# Altium footprint library 2171750001.PcbLib: 1 footprints
Each footprint in its own frame and in the unit in brackets; x right, y up, seen from the top. Pads: shape width x height; smd on the part's side, far side on the other; paste and mask are expansions set on the pad; w line width, h text height; cw(c..) or ccw(c..) is an arc to the next point about the centre after c.
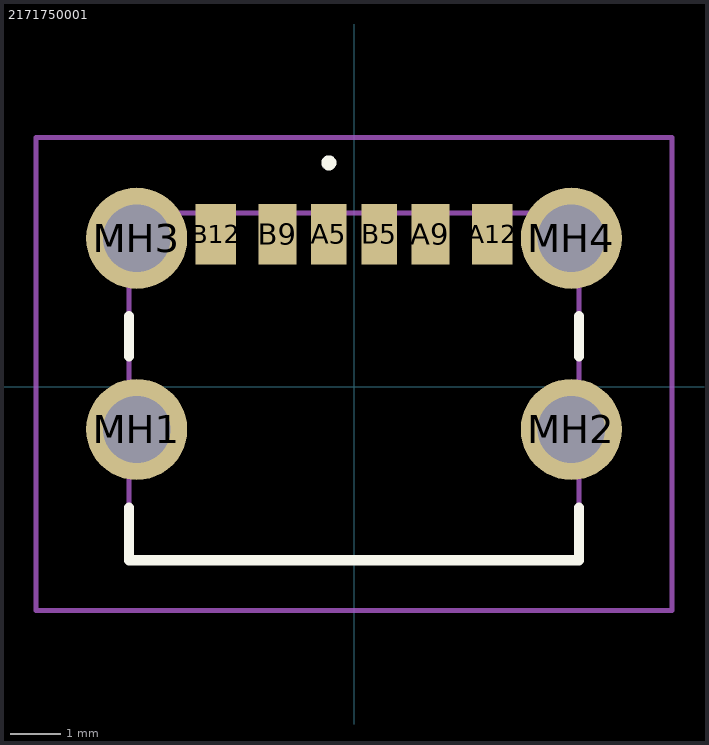
[diagram p0: the footprint, top view; thin cyan lines are the x and y axes]

## 2171750001 [mm]
pads (10):
  rect 0.7x1.2 smd: A5(-0.5,3.03) B5(0.5,3.03)
  rect 0.76x1.2 smd: A9(1.52,3.03) B9(-1.52,3.03)
  rect 0.8x1.2 smd: A12(2.75,3.03) B12(-2.75,3.03)
  round 2.01 hole 1.34: MH1(-4.32,-0.85) MH2(4.32,-0.85) MH3(-4.32,2.95) MH4(4.32,2.95)
Top Overlay:
  lines w0.2: -4.47,-2.4 -4.47,-3.45 4.47,-3.45 4.47,-2.4 ; -4.47,0.6 -4.47,1.4 ; 4.47,0.6 4.47,1.4 ; -0.5,4.4 cw(c-0.5,4.45) -0.5,4.5 ; -0.5,4.4 -0.5,4.4 ; -0.5,4.4 ccw(c-0.5,4.45) -0.5,4.5 ; -0.5,4.4 cw(c-0.5,4.45) -0.5,4.5 ; -0.5,4.5 -0.5,4.5 ; -0.5,4.5 -0.5,4.5
Mechanical 15:
  lines w0.1: -4.47,-3.45 4.47,-3.45 4.47,3.45 -4.47,3.45 -4.47,-3.45
Mechanical 20:
  lines w0.1: -6.325,-4.45 6.325,-4.45 6.325,4.955 -6.325,4.955 -6.325,-4.45